# Altium integrated library Altium_WE-VE_rev20a.IntLib: 21 symbols
Pins are listed as number, name and electrical type; pins without a type are passive.

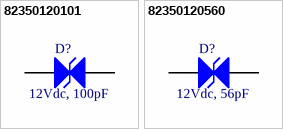
[diagram p0: symbols 82350120101 to 82350120560]

## 82350120101
designator D?, comment 12Vdc, 100pF
WE-VE ESD Suppressor, size 0805, 12Vdc, 100pF; Manufacturer Part Number: 82350120101; Manufacturer: Wurth Elektronik; ESD Voltage air discharge: 15kV; Clamp Voltage: 50V; Leakage Current: 1uA; Isolation Resistance: 10MOhm; ComponentLink1Description: Manufacturer; ComponentLink1URL: http://www.we-online.de; ComponentLink2Description: Datasheet; ComponentLink2URL: https://www.we-online.com/catalog/datasheet/82350120101.pdf; Published Date: April 2020; Size: 0805; Capacitance: 100pF; Operating Temperature: -40 to +85degC; Mounting Technology: SMT; Packaging: Tape and Reel; Working Voltage: 12Vdc
footprint WE-VE_0805
pins: 1, 2

## 82350120560
designator D?, comment 12Vdc, 56pF
WE-VE ESD Suppressor, size 0805, 12Vdc, 56pF; Manufacturer Part Number: 82350120560; Manufacturer: Wurth Elektronik; ESD Voltage air discharge: 15kV; Clamp Voltage: 50V; Leakage Current: 1uA; Isolation Resistance: 10MOhm; ComponentLink1Description: Manufacturer; ComponentLink1URL: http://www.we-online.de; ComponentLink2Description: Datasheet; ComponentLink2URL: https://www.we-online.com/catalog/datasheet/82350120560.pdf; Published Date: April 2020; Size: 0805; Capacitance: 56pF; Operating Temperature: -40 to +85degC; Mounting Technology: SMT; Packaging: Tape and Reel; Working Voltage: 12Vdc
footprint WE-VE_0805
pins: 1, 2


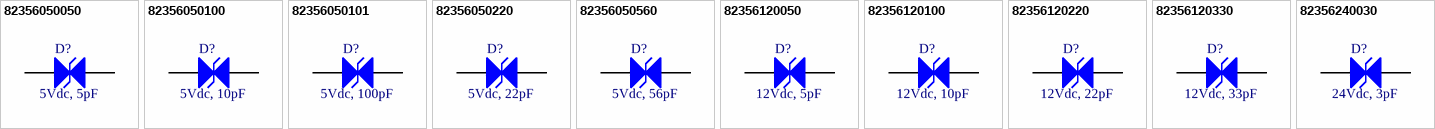
[diagram p1: symbols 82356050050 to 82356240030]

## 82356050050
designator D?, comment 5Vdc, 5pF
WE-VE ESD Suppressor, size 0603, 5Vdc, 5pF; Manufacturer Part Number: 82356050050; Manufacturer: Wurth Elektronik; ESD Voltage air discharge: 15kV; Clamp Voltage: 75V; Leakage Current: 1uA; Isolation Resistance: 10MOhm; ComponentLink1Description: Manufacturer; ComponentLink1URL: http://www.we-online.de; ComponentLink2Description: Datasheet; ComponentLink2URL: https://www.we-online.com/catalog/datasheet/82356050050.pdf; Published Date: April 2020; Size: 0603; Capacitance: 5pF; Operating Temperature: -40 to +85degC; Mounting Technology: SMT; Packaging: Tape and Reel; Working Voltage: 5Vdc
footprint WE-VE_0603
pins: 1, 2

## 82356050100
designator D?, comment 5Vdc, 10pF
WE-VE ESD Suppressor, size 0603, 5Vdc, 10pF; Manufacturer Part Number: 82356050100; Manufacturer: Wurth Elektronik; ESD Voltage air discharge: 15kV; Clamp Voltage: 60V; Leakage Current: 1uA; Isolation Resistance: 10MOhm; ComponentLink1Description: Manufacturer; ComponentLink1URL: http://www.we-online.de; ComponentLink2Description: Datasheet; ComponentLink2URL: https://www.we-online.com/catalog/datasheet/82356050100.pdf; Published Date: April 2020; Size: 0603; Capacitance: 10pF; Operating Temperature: -40 to +85degC; Mounting Technology: SMT; Packaging: Tape and Reel; Working Voltage: 5Vdc
footprint WE-VE_0603
pins: 1, 2

## 82356050101
designator D?, comment 5Vdc, 100pF
WE-VE ESD Suppressor, size 0603, 5Vdc, 100pF; Manufacturer Part Number: 82356050101; Manufacturer: Wurth Elektronik; ESD Voltage air discharge: 15kV; Clamp Voltage: 55V; Leakage Current: 1uA; Isolation Resistance: 10MOhm; ComponentLink1Description: Manufacturer; ComponentLink1URL: http://www.we-online.de; ComponentLink2Description: Datasheet; ComponentLink2URL: https://www.we-online.com/catalog/datasheet/82356050101.pdf; Published Date: April 2020; Size: 0603; Capacitance: 100pF; Operating Temperature: -40 to +85degC; Mounting Technology: SMT; Packaging: Tape and Reel; Working Voltage: 5Vdc
footprint WE-VE_0603
pins: 1, 2

## 82356050220
designator D?, comment 5Vdc, 22pF
WE-VE ESD Suppressor, size 0603, 5Vdc, 22pF; Manufacturer Part Number: 82356050220; Manufacturer: Wurth Elektronik; ESD Voltage air discharge: 15kV; Clamp Voltage: 55V; Leakage Current: 1uA; Isolation Resistance: 10MOhm; ComponentLink1Description: Manufacturer; ComponentLink1URL: http://www.we-online.de; ComponentLink2Description: Datasheet; ComponentLink2URL: https://www.we-online.com/catalog/datasheet/82356050220.pdf; Published Date: April 2020; Size: 0603; Capacitance: 22pF; Operating Temperature: -40 to +85degC; Mounting Technology: SMT; Packaging: Tape and Reel; Working Voltage: 5Vdc
footprint WE-VE_0603
pins: 1, 2

## 82356050560
designator D?, comment 5Vdc, 56pF
WE-VE ESD Suppressor, size 0603, 5Vdc, 56pF; Manufacturer Part Number: 82356050560; Manufacturer: Wurth Elektronik; ESD Voltage air discharge: 15kV; Clamp Voltage: 55V; Leakage Current: 1uA; Isolation Resistance: 10MOhm; ComponentLink1Description: Manufacturer; ComponentLink1URL: http://www.we-online.de; ComponentLink2Description: Datasheet; ComponentLink2URL: https://www.we-online.com/catalog/datasheet/82356050560.pdf; Published Date: April 2020; Size: 0603; Capacitance: 56pF; Operating Temperature: -40 to +85degC; Mounting Technology: SMT; Packaging: Tape and Reel; Working Voltage: 5Vdc
footprint WE-VE_0603
pins: 1, 2

## 82356120050
designator D?, comment 12Vdc, 5pF
WE-VE ESD Suppressor, size 0603, 12Vdc, 5pF; Manufacturer Part Number: 82356120050; Manufacturer: Wurth Elektronik; ESD Voltage air discharge: 15kV; Clamp Voltage: 80V; Leakage Current: 1uA; Isolation Resistance: 10MOhm; ComponentLink1Description: Manufacturer; ComponentLink1URL: http://www.we-online.de; ComponentLink2Description: Datasheet; ComponentLink2URL: https://www.we-online.com/catalog/datasheet/82356120050.pdf; Published Date: April 2020; Size: 0603; Capacitance: 5pF; Operating Temperature: -40 to +85degC; Mounting Technology: SMT; Packaging: Tape and Reel; Working Voltage: 12Vdc
footprint WE-VE_0603
pins: 1, 2

## 82356120100
designator D?, comment 12Vdc, 10pF
WE-VE ESD Suppressor, size 0603, 12Vdc, 10pF; Manufacturer Part Number: 82356120100; Manufacturer: Wurth Elektronik; ESD Voltage air discharge: 15kV; Clamp Voltage: 60V; Leakage Current: 1uA; Isolation Resistance: 10MOhm; ComponentLink1Description: Manufacturer; ComponentLink1URL: http://www.we-online.de; ComponentLink2Description: Datasheet; ComponentLink2URL: https://www.we-online.com/catalog/datasheet/82356120100.pdf; Published Date: April 2020; Size: 0603; Capacitance: 10pF; Operating Temperature: -40 to +85degC; Mounting Technology: SMT; Packaging: Tape and Reel; Working Voltage: 12Vdc
footprint WE-VE_0603
pins: 1, 2

## 82356120220
designator D?, comment 12Vdc, 22pF
WE-VE ESD Suppressor, size 0603, 12Vdc, 22pF; Manufacturer Part Number: 82356120220; Manufacturer: Wurth Elektronik; ESD Voltage air discharge: 15kV; Clamp Voltage: 55V; Leakage Current: 1uA; Isolation Resistance: 10MOhm; ComponentLink1Description: Manufacturer; ComponentLink1URL: http://www.we-online.de; ComponentLink2Description: Datasheet; ComponentLink2URL: https://www.we-online.com/catalog/datasheet/82356120220.pdf; Published Date: April 2020; Size: 0603; Capacitance: 22pF; Operating Temperature: -40 to +85degC; Mounting Technology: SMT; Packaging: Tape and Reel; Working Voltage: 12Vdc
footprint WE-VE_0603
pins: 1, 2

## 82356120330
designator D?, comment 12Vdc, 33pF
WE-VE ESD Suppressor, size 0603, 12Vdc, 33pF; Manufacturer Part Number: 82356120330; Manufacturer: Wurth Elektronik; ESD Voltage air discharge: 15kV; Clamp Voltage: 55V; Leakage Current: 1uA; Isolation Resistance: 10MOhm; ComponentLink1Description: Manufacturer; ComponentLink1URL: http://www.we-online.de; ComponentLink2Description: Datasheet; ComponentLink2URL: https://www.we-online.com/catalog/datasheet/82356120330.pdf; Published Date: April 2020; Size: 0603; Capacitance: 33pF; Operating Temperature: -40 to +85degC; Mounting Technology: SMT; Packaging: Tape and Reel; Working Voltage: 12Vdc
footprint WE-VE_0603
pins: 1, 2

## 82356240030
designator D?, comment 24Vdc, 3pF
WE-VE ESD Suppressor, size 0603, 24Vdc, 3pF; Manufacturer Part Number: 82356240030; Manufacturer: Wurth Elektronik; ESD Voltage air discharge: 15kV; Clamp Voltage: 180V; Leakage Current: 1uA; Isolation Resistance: 10MOhm; ComponentLink1Description: Manufacturer; ComponentLink1URL: http://www.we-online.de; ComponentLink2Description: Datasheet; ComponentLink2URL: https://www.we-online.com/catalog/datasheet/82356240030.pdf; Published Date: April 2020; Size: 0603; Capacitance: 3pF; Operating Temperature: -40 to +85degC; Mounting Technology: SMT; Packaging: Tape and Reel; Working Voltage: 24Vdc
footprint WE-VE_0603
pins: 1, 2


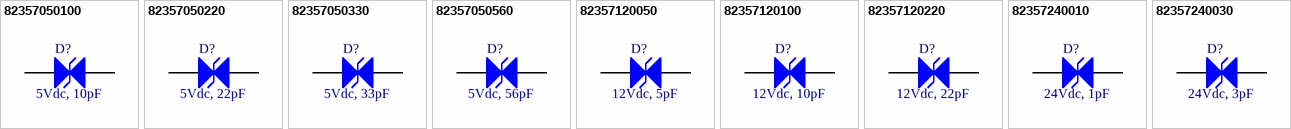
[diagram p2: symbols 82357050100 to 82357240030]

## 82357050100
designator D?, comment 5Vdc, 10pF
WE-VE ESD Suppressor, size 0402, 5Vdc, 10pF; Manufacturer Part Number: 82357050100; Manufacturer: Wurth Elektronik; ESD Voltage air discharge: 15kV; Clamp Voltage: 60V; Leakage Current: 1uA; Isolation Resistance: 10MOhm; ComponentLink1Description: Manufacturer; ComponentLink1URL: http://www.we-online.de; ComponentLink2Description: Datasheet; ComponentLink2URL: https://www.we-online.com/catalog/datasheet/82357050100.pdf; Published Date: April 2020; Size: 0402; Capacitance: 10pF; Operating Temperature: -40 to +85degC; Mounting Technology: SMT; Packaging: Tape and Reel; Working Voltage: 5Vdc
footprint WE-VE_0402
pins: 1, 2

## 82357050220
designator D?, comment 5Vdc, 22pF
WE-VE ESD Suppressor, size 0402, 5Vdc, 22pF; Manufacturer Part Number: 82357050220; Manufacturer: Wurth Elektronik; ESD Voltage air discharge: 15kV; Clamp Voltage: 55V; Leakage Current: 1uA; Isolation Resistance: 10MOhm; ComponentLink1Description: Manufacturer; ComponentLink1URL: http://www.we-online.de; ComponentLink2Description: Datasheet; ComponentLink2URL: https://www.we-online.com/catalog/datasheet/82357050220.pdf; Published Date: April 2020; Size: 0402; Capacitance: 22pF; Operating Temperature: -40 to +85degC; Mounting Technology: SMT; Packaging: Tape and Reel; Working Voltage: 5Vdc
footprint WE-VE_0402
pins: 1, 2

## 82357050330
designator D?, comment 5Vdc, 33pF
WE-VE ESD Suppressor, size 0402, 5Vdc, 33pF; Manufacturer Part Number: 82357050330; Manufacturer: Wurth Elektronik; ESD Voltage air discharge: 15kV; Clamp Voltage: 55V; Leakage Current: 1uA; Isolation Resistance: 10MOhm; ComponentLink1Description: Manufacturer; ComponentLink1URL: http://www.we-online.de; ComponentLink2Description: Datasheet; ComponentLink2URL: https://www.we-online.com/catalog/datasheet/82357050330.pdf; Published Date: April 2020; Size: 0402; Capacitance: 33pF; Operating Temperature: -40 to +85degC; Mounting Technology: SMT; Packaging: Tape and Reel; Working Voltage: 5Vdc
footprint WE-VE_0402
pins: 1, 2

## 82357050560
designator D?, comment 5Vdc, 56pF
WE-VE ESD Suppressor, size 0402, 5Vdc, 56pF; Manufacturer Part Number: 82357050560; Manufacturer: Wurth Elektronik; ESD Voltage air discharge: 15kV; Clamp Voltage: 55V; Leakage Current: 1uA; Isolation Resistance: 10MOhm; ComponentLink1Description: Manufacturer; ComponentLink1URL: http://www.we-online.de; ComponentLink2Description: Datasheet; ComponentLink2URL: https://www.we-online.com/catalog/datasheet/82357050560.pdf; Published Date: April 2020; Size: 0402; Capacitance: 56pF; Operating Temperature: -40 to +85degC; Mounting Technology: SMT; Packaging: Tape and Reel; Working Voltage: 5Vdc
footprint WE-VE_0402
pins: 1, 2

## 82357120050
designator D?, comment 12Vdc, 5pF
WE-VE ESD Suppressor, size 0402, 12Vdc, 5pF; Manufacturer Part Number: 82357120050; Manufacturer: Wurth Elektronik; ESD Voltage air discharge: 15kV; Clamp Voltage: 80V; Leakage Current: 1uA; Isolation Resistance: 10MOhm; ComponentLink1Description: Manufacturer; ComponentLink1URL: http://www.we-online.de; ComponentLink2Description: Datasheet; ComponentLink2URL: https://www.we-online.com/catalog/datasheet/82357120050.pdf; Published Date: April 2020; Size: 0402; Capacitance: 5pF; Operating Temperature: -40 to +85degC; Mounting Technology: SMT; Packaging: Tape and Reel; Working Voltage: 12Vdc
footprint WE-VE_0402
pins: 1, 2

## 82357120100
designator D?, comment 12Vdc, 10pF
WE-VE ESD Suppressor, size 0402, 12Vdc, 10pF; Manufacturer Part Number: 82357120100; Manufacturer: Wurth Elektronik; ESD Voltage air discharge: 15kV; Clamp Voltage: 60V; Leakage Current: 1uA; Isolation Resistance: 10MOhm; ComponentLink1Description: Manufacturer; ComponentLink1URL: http://www.we-online.de; ComponentLink2Description: Datasheet; ComponentLink2URL: https://www.we-online.com/catalog/datasheet/82357120100.pdf; Published Date: April 2020; Size: 0402; Capacitance: 10pF; Operating Temperature: -40 to +85degC; Mounting Technology: SMT; Packaging: Tape and Reel; Working Voltage: 12Vdc
footprint WE-VE_0402
pins: 1, 2

## 82357120220
designator D?, comment 12Vdc, 22pF
WE-VE ESD Suppressor, size 0402, 12Vdc, 22pF; Manufacturer Part Number: 82357120220; Manufacturer: Wurth Elektronik; ESD Voltage air discharge: 15kV; Clamp Voltage: 55V; Leakage Current: 1uA; Isolation Resistance: 10MOhm; ComponentLink1Description: Manufacturer; ComponentLink1URL: http://www.we-online.de; ComponentLink2Description: Datasheet; ComponentLink2URL: https://www.we-online.com/catalog/datasheet/82357120220.pdf; Published Date: April 2020; Size: 0402; Capacitance: 22pF; Operating Temperature: -40 to +85degC; Mounting Technology: SMT; Packaging: Tape and Reel; Working Voltage: 12Vdc
footprint WE-VE_0402
pins: 1, 2

## 82357240010
designator D?, comment 24Vdc, 1pF
WE-VE ESD Suppressor, size 0402, 24Vdc, 1pF; Manufacturer Part Number: 82357240010; Manufacturer: Wurth Elektronik; ESD Voltage air discharge: 15kV; Clamp Voltage: 200V; Leakage Current: 1uA; Isolation Resistance: 10MOhm; ComponentLink1Description: Manufacturer; ComponentLink1URL: http://www.we-online.de; ComponentLink2Description: Datasheet; ComponentLink2URL: https://www.we-online.com/catalog/datasheet/82357240010.pdf; Published Date: April 2020; Size: 0402; Capacitance: 1pF; Operating Temperature: -40 to +85degC; Mounting Technology: SMT; Packaging: Tape and Reel; Working Voltage: 24Vdc
footprint WE-VE_0402
pins: 1, 2

## 82357240030
designator D?, comment 24Vdc, 3pF
WE-VE ESD Suppressor, size 0402, 24Vdc, 3pF; Manufacturer Part Number: 82357240030; Manufacturer: Wurth Elektronik; ESD Voltage air discharge: 15kV; Clamp Voltage: 180V; Leakage Current: 1uA; Isolation Resistance: 10MOhm; ComponentLink1Description: Manufacturer; ComponentLink1URL: http://www.we-online.de; ComponentLink2Description: Datasheet; ComponentLink2URL: https://www.we-online.com/catalog/datasheet/82357240030.pdf; Published Date: April 2020; Size: 0402; Capacitance: 3pF; Operating Temperature: -40 to +85degC; Mounting Technology: SMT; Packaging: Tape and Reel; Working Voltage: 24Vdc
footprint WE-VE_0402
pins: 1, 2